# EAGLE library part 418121160803 (library Wurth_Elektronik_Electromechanic_Switch_rev16b)
2.54 mm small compact SMD flat actuator with top tape WS-DISV,6 pins,3 poles <http://katalog.we-online.de/media/images/v2/Family_WS_IC_4181211608xx_pf2.jpg> Details see: http://katalog.we-online.de/en/em/DISV_2_54_SMALL_COMPACT_SMD_FLAT_ACTUATOR 2015 (C) Wurth Elektronik
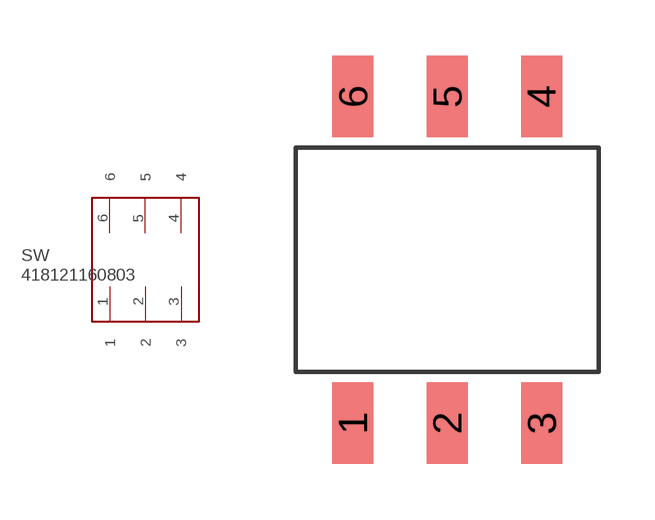
[diagram p31: symbol with the pads of 418121160803; footprint 418121160803]

Designator prefix SW

## 418121160803  [418121160803]
1  1
2  2
3  3
4  4
5  5
6  6

## Footprint 418121160803 (pad centres in mm)
WS-IC-2.54 mm small compact SMD Dip Switch with top tape,6 pins,3 poles
smd 1.1 x 2.2: 1 -2.54,-4.4; 2 0,-4.4; 3 2.54,-4.4; 4 2.54,4.4; 5 0,4.4; 6 -2.54,4.4